# Altium schematic symbol library ALTAIR_PD_Amplifiers.SchLib: 6 symbols
Pins are listed as number, name and electrical type; pins without a type are passive.

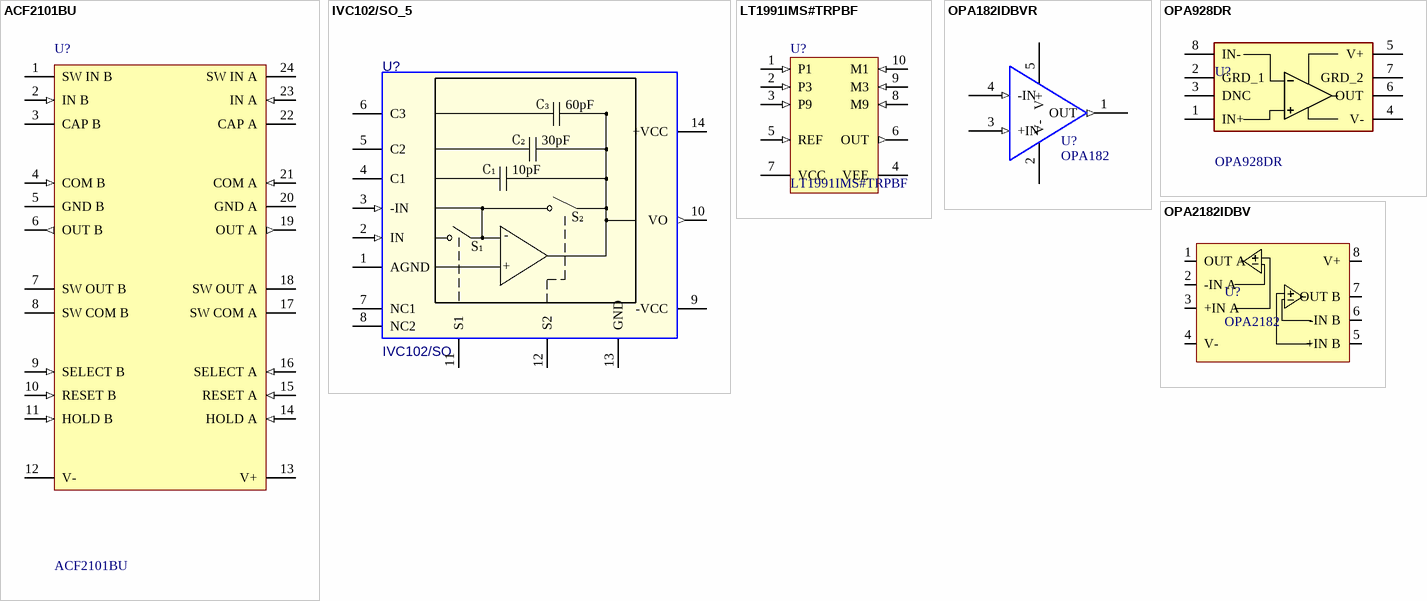
[diagram p0: symbols ACF2101BU to OPA2182IDBV]

## ACF2101BU
designator U?
Low Noise, Dual Switched Integrator, 14.5 to 36 V, -40 to 125 degC, 24-pin SOIC (DW24), Green (RoHS & no Sb/Br); Manufacturer: Texas Instruments; Iq per channel(Max)(mA): 15; Vio (25C)(Max)(mV): 2; Total Supply Voltage(Max)(+5V is 5, +/-5V is 10): 36; Slew Rate(Typ)(V/us): 3; Rating: Catalog; Packing: TUBE; Sub Family: Precision Amplifier; Offset Drift(Typ)(uV/C): 1; Total Supply Voltage(Min)(+5V is 5, +/-5V is 10): 14.5; Code_JEDEC: MS-013; PackageReference: DW0024A; ComponentLink2Description: Datasheet; Eco-Plan: Green (RoHS & no Sb/Br); ComponentLink3Description: Package Specification; ComponentLink2URL: http://www.ti.com/lit/ds/symlink/acf2101.pdf; DatasheetVersion: SBFS003; ComponentLink1URL: http://www.ti.com/; ComponentLink1Description: Manufacturer URL; ComponentLink3URL: http://www.ti.com/litv/pdf/mpds174a; PartNumber: ACF2101BU; PackageVersion: 4040000-5/G, 01/2011; Number of Channels: 2; PackageDescription: 24-Pin Plastic Small Outline, Body 15.4 x 7.5 mm, Pitch 1.27 mm; GBW(Typ)(MHz): 2; Mounting Technology: Surface Mount
footprint 24-SOIC 7.6MM WIDE LOW DENSITY (SOIC, 24-Leads, Body 15.6x7.6mm, Pitch 1.27mm, IPC Low Density)
pins: 1 SW IN B "B Switch-In", 2 IN B (in) "B In", 3 CAP B "B  Cap", 4 COM B (in) "B Common", 5 GND B (power) "B Ground", 6 OUT B (out) "B Out", 7 SW OUT B "B Switch-Out", 8 SW COM B "B Switch-Common", 9 SELECT B (in) "B Select", 10 RESET B (in) "B Reset", 11 HOLD B (in) "B Hold", 12 V- (power), 13 V+ (power), 14 HOLD A (in) "A Hold", 15 RESET A (in) "A Reset", 16 SELECT A (in) "A Select", 17 SW COM A "A Switch-Common", 18 SW OUT A "A Switch-Out", 19 OUT A (out) "A  Out", 20 GND A (power) "A Ground", 21 COM A (in) "A Common", 22 CAP A "A  Cap", 23 IN A (in) "A In", 24 SW IN A "A Switch-In"

## IVC102/SO_5
designator U?, comment IVC102/SO
Precision Switched Integrator Transimpedance Amplifier; Part Reference: U1; Value: IVC102/SO
footprint 14-SOIC 4MM WIDE LOW DENSITY
pins: 1 AGND (power), 2 IN (in), 3 -IN (in), 4 C1, 5 C2, 6 C3, 7 NC1, 8 NC2, 9 -VCC (power), 10 VO (out), 11 S1, 12 S2, 13 GND (power), 14 +VCC (power)
text: C₃; 60pF; C₂; 30pF; C₁; 10pF; S₂; -; S₁; +

## LT1991IMS#TRPBF
designator U?
Programmable Gain Amplifier - Single Channel, Precision, -13 to 14 Gain Selectable Operational Amplifier, 0.56 MHz Typical GBW, 0.12 V/us Typical SR, 2.4 to 40 V, 10-Pin SOP (MS-10), Industial, Pb-Free, Reel; Manufacturer: Linear Technology; Linear Technology Part Number: LT1991; Vos (mV) Guaranteed: 0.05; Channels (#): 1; Is (mA) Typical: 0.1; Vs Max (V): 40; Vos (mV) Typical: 0.015; Vs Min (V): 2.4; GBW (MHz) Typical: 0.56; SR (V/us) Typical: 0.12; ComponentLink1Description: Manufacturer URL; PackageVersion: Rev E; PackageDescription: 10-Lead Plastic MSOP, Body 3 x 3 mm, Pitch 0.5 mm; ComponentLink1URL: http://www.linear.com/; Mounting Technology: Surface Mount; PartNumber: LT1991IMS#TRPBF; Type: SGA; RoHS: Pb-Free; ComponentLink3URL: http://cds.linear.com/docs/en/packaging/MSOP_10_05-08-1661.pdf; ComponentLink3Description: Package Specification; ComponentLink2Description: Datasheet; DatasheetVersion: Rev. H; ComponentLink2URL: http://cds.linear.com/docs/en/datasheet/1991fh.pdf; Packing: Reel; RevisionNote: URLs updated; PackageReference: LT-MS-10
footprint 10-SOP 0.5MM PITCH 3MM WIDTH IPC HIGH DENSITY (SOP, 10-Leads, Body 3x3mm, Pitch 0.50mm, IPC High Density)
pins: 1 P1 (in) "Noninverting Gain-of-1 input. Connects a 450k internal resistor to the op amp’s noninverting input.", 2 P3 (in) "Noninverting Gain-of-3 input. Connects a 150k internal resistor to the op amp’s noninverting input.", 3 P9 (in) "Noninverting Gain-of-9 input. Connects a 50k internal resistor to the op amp’s noninverting input.", 4 VEE (power) "Negative Power Supply. Can be either ground (in single supply applications), or a negative voltage (in split supply applications).", 5 REF (in) "Reference Input. Sets the output level when difference between inputs is zero. Connects a 450k internal resistor to the op amp’s noninverting input.", 6 OUT (out) "Output. VOUT = VREF + 1 ?(VP1 - VM1) + 3 ?(VP3 - VM3) + 9 ?(VP9 - VM9).", 7 VCC (power) "Positive Power Supply. Can be anything from 2.7V to 36V above the VEE voltage.", 8 M9 (in) "Inverting Gain-of-9 input. Connects a 50k internal resistor to the op amp’s inverting input.", 9 M3 (in) "Inverting Gain-of-3 input. Connects a 150k internal resistor to the op amp’s inverting input.", 10 M1 (in) "Inverting Gain-of-1 input. Connects a 450k internal resistor to the op amp’s inverting input."

## OPA182IDBVR
designator U?, comment OPA182
Op amp, Highest-precision, 36-V, 5-MHz, single, low-noise, zero-drift, MUX-friendly amplifier 5-SOT-23 -40 to 125; Manufacturer_Name: Texas Instruments; Manufacturer_Part_Number: OPA182IDBVR; Copyright: Copyright (C) 2025 Ultra Librarian. All rights reserved.; RefDes: RefDes; Type: Type
footprint SOT23-5 NON-IPC TI (SOT-23-5_DBV_TEX)
pins: 1 OUT (out), 2 V- (power), 3 +IN (in), 4 -IN (in), 5 V+ (power)

## OPA928DR
designator U?
Op Amp, 36V, fA input, precision, e-trim; Manufacturer_Name: Texas Instruments; Datasheet Link: https://www.ti.com/lit/ds/symlink/opa928.pdf?HQS=dis-mous-null-mousermode-dsf-pf-null-wwe&ts=1731036524091&ref_url=https%253A%252F%252Fwww.ti.com%252Fgeneral%252Fdocs%252Fsuppproductinfo.tsp%253FdistId%253D26%2526gotoUrl%253Dhttps%253A%252F%252Fwww.ti.com; Height: 1.75mm; Manufacturer_Part_Number: OPA928DR; Mouser Part Number: 595-OPA928DR; Mouser Price/Stock: https://www.mouser.co.uk/ProductDetail/Texas-Instruments/OPA928DR?qs=2wMNvWM5ZX5RgAZJHoeYSw%3D%3D; Arrow Part Number: OPA928DR; Arrow Price/Stock: null?region=nac
footprint 8-SOIC 4MM WIDE MID DENSITY
pins: 1 IN+, 2 GRD_1, 3 DNC, 4 V-, 5 V+, 6 OUT, 7 GRD_2, 8 IN-

## OPA2182IDBV
designator U?, comment OPA2182
Op amp, 2 Channel, Highest-precision, 36-V, 5-MHz, single, low-noise, zero-drift, MUX-friendly amplifier 8VSSOP -40 to 125
pins: 1 OUT A, 2 -IN A, 3 +IN A, 4 V-, 5 +IN B, 6 -IN B, 7 OUT B, 8 V+